# Altium schematic symbol library [D] Диоды.SchLib: 1 symbol
Pins are listed as number, name and electrical type; pins without a type are passive.

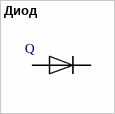
[diagram p0: symbol Диод]

## Диод
designator Q
footprint SOT-23
pins: 1, 2